# EAGLE library part MAPLE-MINI-SOCKET (library Brendan)
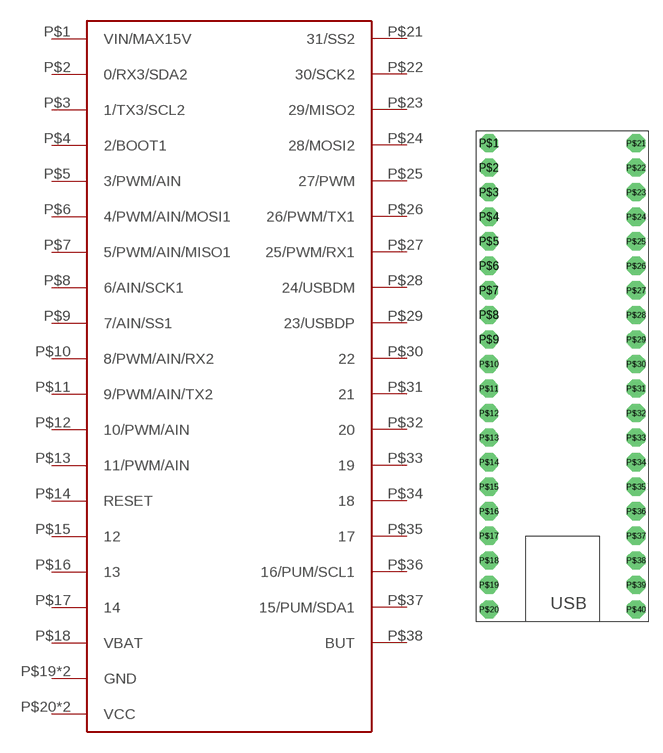
[diagram p6: symbol with the pads of MAPLE-MINI-SOCKET; footprint MAPLE-MINI-SOCKET]

Designator prefix -

## MAPLE-MINI-SOCKET  [MAPLE-MINI-SOCKET]
P$1  VIN/MAX15V
P$2  0/RX3/SDA2
P$3  1/TX3/SCL2
P$4  2/BOOT1
P$5  3/PWM/AIN
P$6  4/PWM/AIN/MOSI1
P$7  5/PWM/AIN/MISO1
P$8  6/AIN/SCK1
P$9  7/AIN/SS1
P$10  8/PWM/AIN/RX2
P$11  9/PWM/AIN/TX2
P$12  10/PWM/AIN
P$13  11/PWM/AIN
P$14  RESET
P$15  12
P$16  13
P$17  14
P$18  VBAT
P$19  GND
P$20  VCC
P$21  31/SS2
P$22  30/SCK2
P$23  29/MISO2
P$24  28/MOSI2
P$25  27/PWM
P$26  26/PWM/TX1
P$27  25/PWM/RX1
P$28  24/USBDM
P$29  23/USBDP
P$30  22
P$31  21
P$32  20
P$33  19
P$34  18
P$35  17
P$36  16/PUM/SCL1
P$37  15/PUM/SDA1
P$38  BUT
P$39  GND
P$40  VCC

## Footprint MAPLE-MINI-SOCKET (pad centres in mm)
drill 1.016 pad 1.88 octagon: P$1 -7.62,24.13; P$2 -7.62,21.59; P$3 -7.62,19.05; P$4 -7.62,16.51; P$5 -7.62,13.97; P$6 -7.62,11.43; P$7 -7.62,8.89; P$8 -7.62,6.35; P$9 -7.62,3.81; P$10 -7.62,1.27; P$11 -7.62,-1.27; P$12 -7.62,-3.81; P$13 -7.62,-6.35; P$14 -7.62,-8.89; P$15 -7.62,-11.43; P$16 -7.62,-13.97; P$17 -7.62,-16.51; P$18 -7.62,-19.05; P$19 -7.62,-21.59; P$20 -7.62,-24.13; P$21 7.62,24.13; P$22 7.62,21.59; P$23 7.62,19.05; P$24 7.62,16.51; P$25 7.62,13.97; P$26 7.62,11.43; P$27 7.62,8.89; P$28 7.62,6.35; P$29 7.62,3.81; P$30 7.62,1.27; P$31 7.62,-1.27; P$32 7.62,-3.81; P$33 7.62,-6.35; P$34 7.62,-8.89; P$35 7.62,-11.43; P$36 7.62,-13.97; P$37 7.62,-16.51; P$38 7.62,-19.05; P$39 7.62,-21.59; P$40 7.62,-24.13